# Altium integrated library 640456-7.IntLib: 1 symbol
Pins are listed as number, name and electrical type; pins without a type are passive.

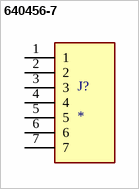
[diagram p0: symbol 640456-7]

## 640456-7
designator J?
Header Friction Lock MTA-100 7 250 VAC Polyester Tin Copper Alloy Tin | TE Connectivity 640456-7; SnapEDA_Link: https://www.snapeda.com/parts/640456-7/TE+Connectivity+AMP+Connectors/view-part/?ref=snap; Package: None; Value: *; MF: TE Connectivity; MP: 640456-7; Check_prices: https://www.snapeda.com/parts/640456-7/TE+Connectivity+AMP+Connectors/view-part/?ref=eda
footprint TE_640456-7
pins: 1, 2, 3, 4, 5, 6, 7